# Altium schematic symbol library GMRsensor.SchLib: 2 symbols
Pins are listed as number, name and electrical type; pins without a type are passive.

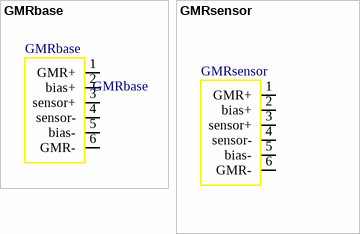
[diagram p0: symbols GMRbase to GMRsensor]

## GMRbase
designator GMRbase  (value not drawn)
footprint GMRbase
pins: 1 GMR+, 2 bias+, 3 sensor+, 4 sensor-, 5 bias-, 6 GMR-

## GMRsensor
designator *
footprint GMRsensor
pins: 1 GMR+, 2 bias+, 3 sensor+, 4 sensor-, 5 bias-, 6 GMR-